# Altium footprint library PCB - LEADED - SSOP-16.PCBLIB: 1 footprints
Each footprint in its own frame and in the unit in brackets; x right, y up, seen from the top. Pads: shape width x height; smd on the part's side, far side on the other; paste and mask are expansions set on the pad; w line width, h text height; cw(c..) or ccw(c..) is an arc to the next point about the centre after c.
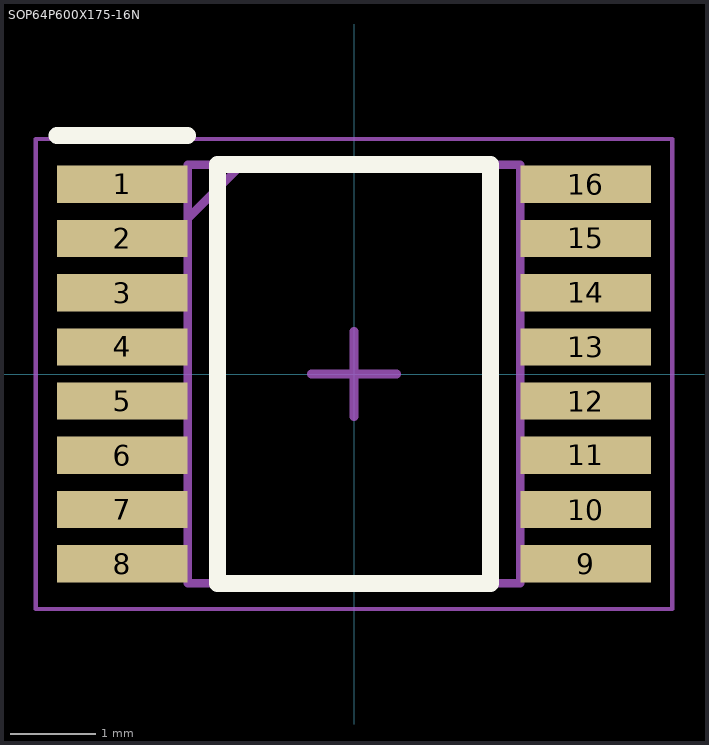
[diagram p0: the footprint, top view; thin cyan lines are the x and y axes]

## SOP64P600X175-16N [mm]
pads (16):
  rect 1.528x0.435 smd: 1(-2.711,2.222) 2(-2.711,1.588) 3(-2.711,0.952) 4(-2.711,0.318) 5(-2.711,-0.318) 6(-2.711,-0.952) 7(-2.711,-1.588) 8(-2.711,-2.222) 9(2.711,-2.222) 10(2.711,-1.588) 11(2.711,-0.952) 12(2.711,-0.318) 13(2.711,0.318) 14(2.711,0.952) 15(2.711,1.588) 16(2.711,2.222)
Top Overlay:
  lines w0.2: -3.475,2.79 -1.948,2.79 ; -1.598,-2.452 -1.598,2.452 1.598,2.452 1.598,-2.452 -1.598,-2.452
Top Assembly:
  lines w0.1: -1.948,1.818 -1.312,2.452 ; -1.948,-2.452 -1.948,2.452 1.948,2.452 1.948,-2.452 -1.948,-2.452
Top Courtyard:
  lines w0.05: -3.725,-2.75 -3.725,2.75 3.725,2.75 3.725,-2.75 -3.725,-2.75
Top Designator:
  text ".Designator" at -1.806,3.238 h1
Top Component Center:
  lines w0.1: -0.5,0 0.5,0 ; 0,-0.5 0,0.5
3D body "ISO7741FDBQ.stp": height 1.75, standoff 0, extent -2.997,-2.452 2.997,2.452